# Altium footprint library My_Library.PcbLib: 118 footprints (part 8 of 8)
Each footprint in its own frame and in the unit in brackets; x right, y up, seen from the top. Pads: shape width x height; smd on the part's side, far side on the other; paste and mask are expansions set on the pad; w line width, h text height; cw(c..) or ccw(c..) is an arc to the next point about the centre after c.
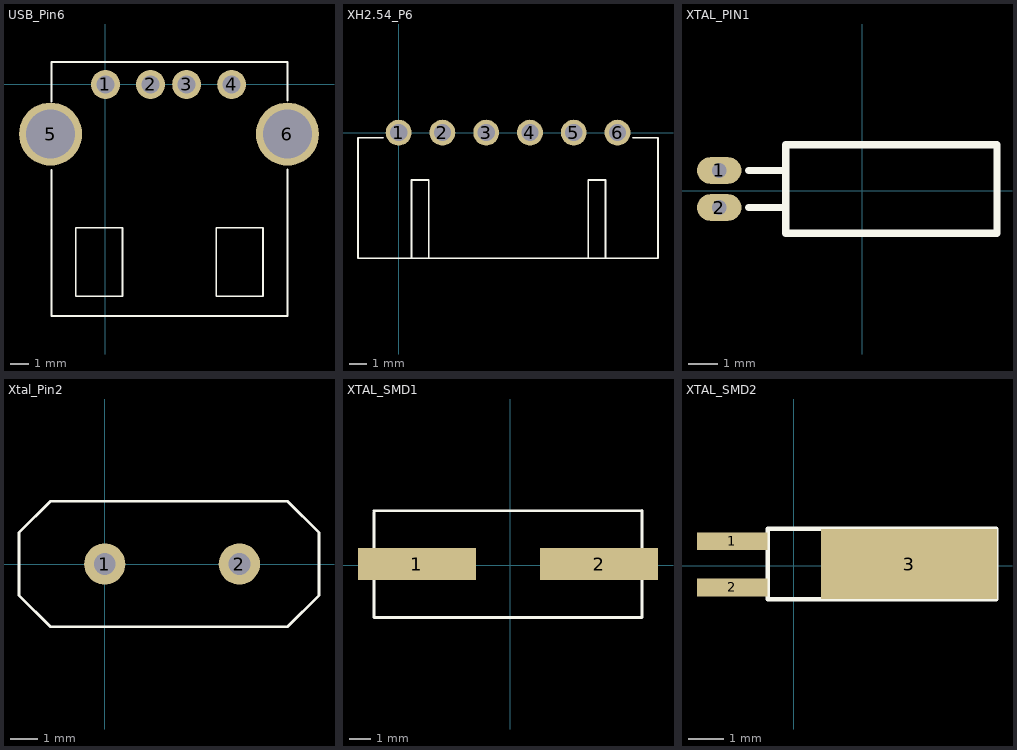
[diagram p7: the footprints below, top view; thin cyan lines are the x and y axes]

## USB_Pin6 [mm]
pads (6):
  round 1.6 hole 1: 1(0,0) 2(2.5,0) 3(4.5,0) 4(7,0)
  round 3.5 hole 2.7: 5(-3.05,-2.75) 6(10.1,-2.75)
Top Overlay:
  lines w0.1: -3,-4.75 -3,-12.85 10.1,-12.85 10.1,-4.7 ; -3,-0.95 -3,1.25 10.1,1.25 10.1,-0.9 ; -1.65,-11.75 0.95,-11.75 0.95,-8.15 0.95,-7.95 -1.65,-7.95 -1.65,-11.75 ; 6.15,-11.75 6.15,-7.95 8.75,-7.95 8.75,-8.15 8.75,-11.75 6.15,-11.75
3D body: height 6, standoff 0, extent -3,-12.85 10.1,1.25

## XH2.54_P6 [mm]
pads (6):
  round 1.5 hole 1: 1(0,0) 2(2.54,0) 3(5.08,0) 4(7.62,0) 5(10.16,0) 6(12.7,0)
Top Overlay:
  lines w0.1: -0.9,-0.3 -2.36,-0.3 -2.36,-5.93 -2.36,-6.3 -2.36,-7.3 15.05,-7.3 15.05,-6.3 15.05,-0.3 13.59,-0.3 ; 0.75,-7.3 0.75,-6.3 0.75,-2.75 1.75,-2.75 1.75,-6.3 1.75,-7.3 ; 11,-7.3 11,-6.3 11,-2.75 12,-2.75 12,-6.3 12,-7.3
3D body: height 5.5, standoff 0, extent -2.35,-7.3 15.05,-0.3

## XTAL_PIN1 [mil]
pads (2):
  oval 60x36 hole 20: 1(-192.91,27.56) 2(-192.91,-22.44)
Top Overlay:
  lines w10: -152.91,-22.44 -102.91,-22.44 ; -152.91,27.56 -102.91,27.56 ; -92.91,-57.44 -102.91,-57.44 ; -102.91,-57.44 132.09,-57.44 182.09,-57.44 182.09,62.56 132.09,62.56 -102.91,62.56 -102.91,-57.44

## Xtal_Pin2 [mm]
pads (2):
  round 1.5 hole 0.8: 1(0,0) 2(4.9,0)
Top Overlay:
  lines w0.1: -3.122,-1.143 -3.122,1.143 -1.979,2.286 6.657,2.286 7.8,1.143 7.8,-1.143 6.657,-2.286 -1.979,-2.286 -3.122,-1.143
3D body: height 3.5, standoff 0, extent -3.15,-2.3 7.8,2.3

## XTAL_SMD1 [mm]
pads (2):
  rect 5.5x1.5 smd: 1(-4.35,0.05) 2(4.15,0.05)
Top Overlay:
  lines w0.127: -6.357,2.539 6.15,2.55 6.15,-2.45 -6.25,-2.45 -6.35,-2.45 -6.35,2.45

## XTAL_SMD2 [mm]
pads (3):
  rect 2x0.5 smd: 1(-1.75,0.7) 2(-1.75,-0.621)
  rect 5x2 smd: 3(3.283,0.048)
Top Overlay:
  lines w0.127: -0.742,-0.952 3.258,-0.952 3.758,-0.952 5.758,-0.952 5.758,1.048 3.758,1.048 -0.742,1.048 -0.742,-0.952